# Altium schematic symbol library ERJ-P06J103V.SchLib: 1 symbol
Pins are listed as number, name and electrical type; pins without a type are passive.

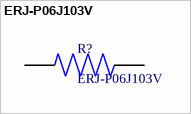
[diagram p0: symbol ERJ-P06J103V]

## ERJ-P06J103V
designator R?
RES SMD 10K OHM 5% 1/2W 0805; Value: 10k; Tolerance: ±5%
footprint ERJ-P06J103V
pins: 1, 2